# Altium footprint library PcbLib1.PcbLib: 25 footprints (part 2 of 2)
Each footprint in its own frame and in the unit in brackets; x right, y up, seen from the top. Pads: shape width x height; smd on the part's side, far side on the other; paste and mask are expansions set on the pad; w line width, h text height; cw(c..) or ccw(c..) is an arc to the next point about the centre after c.
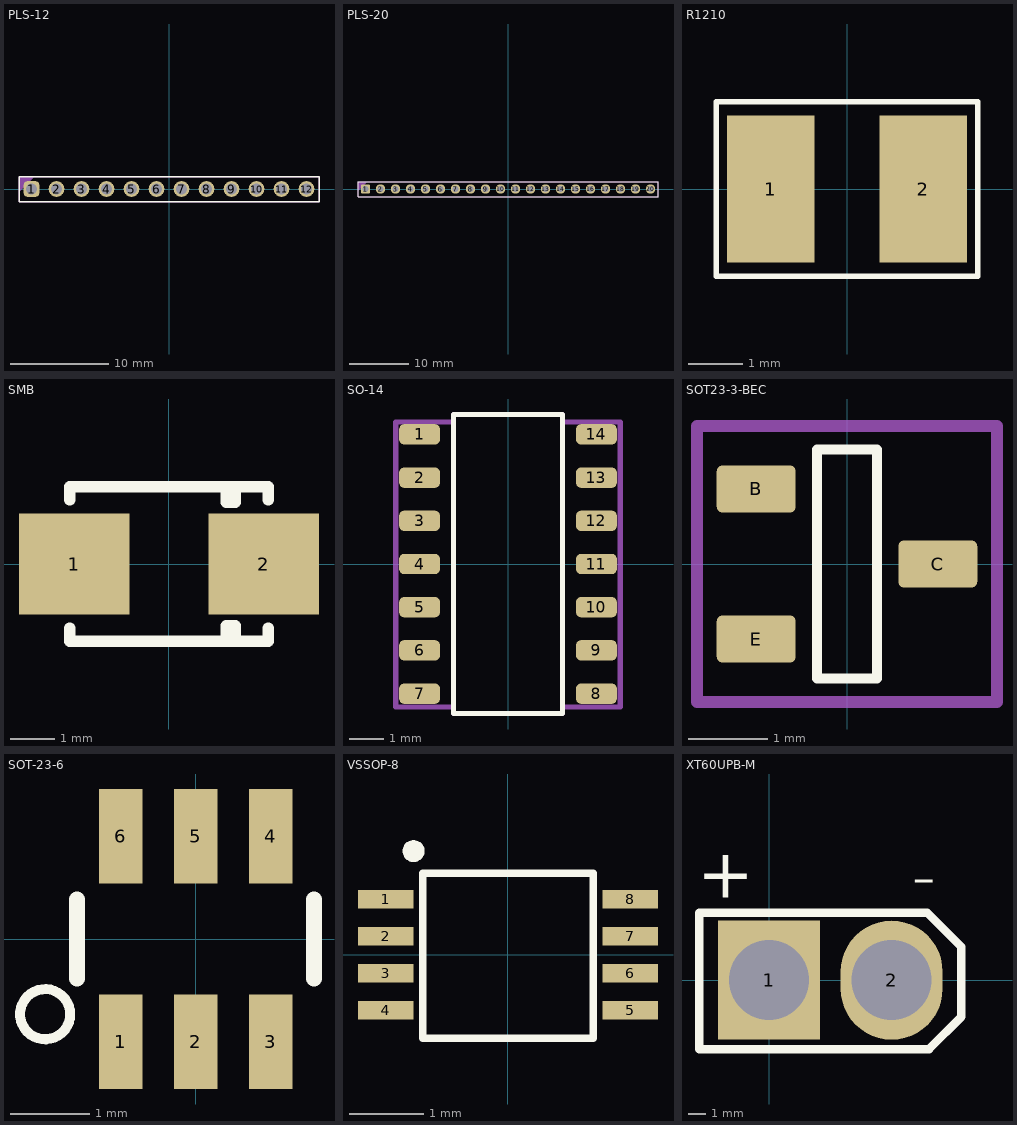
[diagram p1: the footprints below, top view; thin cyan lines are the x and y axes]

## PLS-12 [mm]
pads (12):
  rrect50% 1.6x1.6 hole 1.1: 1(-13.97,0)
  round 1.6 hole 1.1: 2(-11.43,0) 3(-8.89,0) 4(-6.35,0) 5(-3.81,0) 6(-1.27,0) 7(1.27,0) 8(3.81,0) 9(6.35,0) 10(8.89,0) 11(11.43,0) 12(13.97,0)
Top Overlay:
  lines w0.15: -15.24,-1.27 -15.24,1.27 15.24,1.27 15.24,-1.27 -15.24,-1.27
Top Designator:
  text ".Designator" at -3.999,-0.267 h0.8
Mechanical 29:
  region: -15.24,1.27 -13.716,1.27 -15.24,-0.254
  lines w0.15: -15.24,-1.27 15.24,-1.27 15.24,1.27 -15.24,1.27 -15.24,-1.27
  text ".Designator" at -3.5,-0.3 h1
3D body "PLS-1.STEP": height 8.5, standoff -3, extent -15.24,-1.27 -12.7,1.27
3D body "PLS-1.STEP": height 8.5, standoff -3, extent -12.7,-1.27 -10.16,1.27
3D body "PLS-1.STEP": height 8.5, standoff -3, extent -10.16,-1.27 -7.62,1.27
3D body "PLS-1.STEP": height 8.5, standoff -3, extent -7.62,-1.27 -5.08,1.27
3D body "PLS-1.STEP": height 8.5, standoff -3, extent -5.08,-1.27 -2.54,1.27
3D body "PLS-1.STEP": height 8.5, standoff -3, extent -2.54,-1.27 0,1.27
3D body "PLS-1.STEP": height 8.5, standoff -3, extent 0,-1.27 2.54,1.27
3D body "PLS-1.STEP": height 8.5, standoff -3, extent 2.54,-1.27 5.08,1.27
3D body "PLS-1.STEP": height 8.5, standoff -3, extent 5.08,-1.27 7.62,1.27
3D body "PLS-1.STEP": height 8.5, standoff -3, extent 7.62,-1.27 10.16,1.27
3D body "PLS-1.STEP": height 8.5, standoff -3, extent 10.16,-1.27 12.7,1.27
3D body "PLS-1.STEP": height 8.5, standoff -3, extent 12.7,-1.27 15.24,1.27

## PLS-20 [mm]
pads (20):
  rrect50% 1.6x1.6 hole 1.1: 1(-24.13,0)
  round 1.6 hole 1.1: 2(-21.59,0) 3(-19.05,0) 4(-16.51,0) 5(-13.97,0) 6(-11.43,0) 7(-8.89,0) 8(-6.35,0) 9(-3.81,0) 10(-1.27,0) 11(1.27,0) 12(3.81,0) 13(6.35,0) 14(8.89,0) 15(11.43,0) 16(13.97,0) 17(16.51,0) 18(19.05,0) 19(21.59,0) 20(24.13,0)
Top Overlay:
  lines w0.15: -25.4,-1.27 25.4,-1.27 25.4,1.27 -25.4,1.27 -25.4,-1.27
Top Designator:
  text ".Designator" at -3.999,-0.267 h0.8
Mechanical 29:
  region: -25.4,1.27 -23.876,1.27 -25.4,-0.254
  lines w0.15: -25.4,-1.27 -25.4,1.27 25.4,1.27 25.4,-1.27 -25.4,-1.27
  text ".Designator" at -3.5,-0.3 h1
3D body "PLS-1.STEP": height 8.5, standoff -3, extent 22.86,-1.27 25.4,1.27
3D body "PLS-1.STEP": height 8.5, standoff -3, extent 20.32,-1.27 22.86,1.27
3D body "PLS-1.STEP": height 8.5, standoff -3, extent 17.78,-1.27 20.32,1.27
3D body "PLS-1.STEP": height 8.5, standoff -3, extent 15.24,-1.27 17.78,1.27
3D body "PLS-1.STEP": height 8.5, standoff -3, extent 12.7,-1.27 15.24,1.27
3D body "PLS-1.STEP": height 8.5, standoff -3, extent 10.16,-1.27 12.7,1.27
3D body "PLS-1.STEP": height 8.5, standoff -3, extent 7.62,-1.27 10.16,1.27
3D body "PLS-1.STEP": height 8.5, standoff -3, extent 5.08,-1.27 7.62,1.27
3D body "PLS-1.STEP": height 8.5, standoff -3, extent 2.54,-1.27 5.08,1.27
3D body "PLS-1.STEP": height 8.5, standoff -3, extent 0,-1.27 2.54,1.27
3D body "PLS-1.STEP": height 8.5, standoff -3, extent -2.54,-1.27 0,1.27
3D body "PLS-1.STEP": height 8.5, standoff -3, extent -5.08,-1.27 -2.54,1.27
3D body "PLS-1.STEP": height 8.5, standoff -3, extent -7.62,-1.27 -5.08,1.27
3D body "PLS-1.STEP": height 8.5, standoff -3, extent -10.16,-1.27 -7.62,1.27
3D body "PLS-1.STEP": height 8.5, standoff -3, extent -12.7,-1.27 -10.16,1.27
3D body "PLS-1.STEP": height 8.5, standoff -3, extent -15.24,-1.27 -12.7,1.27
3D body "PLS-1.STEP": height 8.5, standoff -3, extent -17.78,-1.27 -15.24,1.27
3D body "PLS-1.STEP": height 8.5, standoff -3, extent -20.32,-1.27 -17.78,1.27
3D body "PLS-1.STEP": height 8.5, standoff -3, extent -22.86,-1.27 -20.32,1.27
3D body "PLS-1.STEP": height 8.5, standoff -3, extent -25.4,-1.27 -22.86,1.27

## R1210 [mm]
pads (2):
  rect 1.6x2.7 smd: 1(-1.4,0) 2(1.4,0)
Top Overlay:
  lines w0.1: -2.4,-1.6 2.4,-1.6 2.4,1.6 -2.4,1.6 -2.4,-1.6
3D body "RC1210.stp": height 0.55, standoff 0, extent -1.5,-1.3 1.6,1.3

## SMB [mm]
pads (2):
  rect 2.5x2.3 smd: 1(-2.15,0) 2(2.15,0)
Top Overlay:
  lines w0.254: -2.25,-1.45 -2.25,-1.75 2.25,-1.75 2.25,-1.45 ; -2.25,1.45 -2.25,1.75 2.25,1.75 2.25,1.45 ; 1.3,-1.7 1.3,-1.4 1.5,-1.4 1.5,-1.7 ; 1.3,1.7 1.3,1.4 1.5,1.4 1.5,1.7

## SO-14 [mm] "SOIC, 14-Leads, Body 8,65x3,90mm, Pitch 1,27mm, IPC Medium Density"
height 1.75
pads (14):
  rrect50% 1.2x0.6 smd: 1(-2.6,3.81) 2(-2.6,2.54) 3(-2.6,1.27) 4(-2.6,0) 5(-2.6,-1.27) 6(-2.6,-2.54) 7(-2.6,-3.81) 8(2.6,-3.81) 9(2.6,-2.54) 10(2.6,-1.27) 11(2.6,0) 12(2.6,1.27) 13(2.6,2.54) 14(2.6,3.81)
Top Overlay:
  lines w0.15: -1.6,-4.4 1.6,-4.4 1.6,4.4 -1.6,4.4 -1.6,-4.4
  text "." at -3.2,4.7 h0.1
Top Courtyard:
  lines w0.15: -3.3,-4.2 -3.3,4.18 -1.6,4.18 -1.6,4.4 1.6,4.4 1.6,4.173 3.3,4.173 3.3,-4.2 1.6,-4.2 1.6,-4.4 -1.6,-4.4 -1.6,-4.2 -3.3,-4.2
3D body "SO-14N.step": height 1.75, standoff 0, extent -3,-4.4 3,4.4

## SOT23-3-BEC [mm] "SOT23, 3 pin"
height 1.003
pads (3):
  rrect25% 1x0.6 smd: B(-1.15,0.95) C(1.15,0) E(-1.15,-0.95)
Top Overlay:
  lines w0.127: -0.381,-1.45 0.381,-1.45 0.381,1.45 -0.381,1.45 -0.381,-1.45
  text "." at -1.5,1.75 h0.1
Top Courtyard:
  lines w0.15: -1.9,-1.75 1.9,-1.75 1.9,1.75 -1.9,1.75 -1.9,-1.75
3D body "SOT23-3.STEP": height 1.29, standoff -0.01, extent -1.4,-1.45 1.4,1.45

## SOT-23-6 [mil]
pads (6):
  rect 21.65x47.24 smd: 1(-37.4,-51.18) 2(0,-51.18) 3(37.4,-51.18) 4(37.4,51.18) 5(0,51.18) 6(-37.4,51.18)
Top Overlay:
  circle w5: c-75,-37.5 r12.5
  lines w8: -59.06,-19.69 -59.06,19.69 ; 59.06,-19.69 59.06,19.69
3D body "sot-23-6.stp": height 45.43, standoff 1.43, extent -58,-56 57,56

## VSSOP-8 [mm]
pads (9):
  rect 0.75x0.25 smd: 1(-1.65,0.75) 2(-1.65,0.25) 3(-1.65,-0.25) 4(-1.65,-0.75) 5(1.65,-0.75) 6(1.65,-0.25) 7(1.65,0.25) 8(1.65,0.75)
  round 0.3 on Top Overlay: ""(-1.275,1.4)
Top Overlay:
  lines w0.1: -1.15,0.725 -1.15,0.75 ; -1.15,0.975 -1.15,1 ; -1.15,-1.125 1.15,-1.125 1.15,1.1 -1.15,1.1 -1.15,-1.125
3D body "SOP50P310X90-8N[8US8_VSSOP_DCU_MO-187CA].step": height 0.9, standoff 0, extent -1.625,-1.05 1.575,1.05

## XT60UPB-M [mm]
pads (2):
  rect 6x7 hole 4.7: 1(0,0)
  oval 6x7 hole 4.7: 2(7.2,0)
Top Overlay:
  lines w0.5: -4.1,-4.05 -4.1,3.95 9.3,3.95 11.3,1.95 11.3,-0.05 11.3,-2.05 11.3,-2.15 9.4,-4.05 -4.1,-4.05
  text "+" at -4.23,3.885 h5
  text "-" at 8.391,3.841 h5